# Altium schematic symbol library JTAG_20POS_100mil.SchLib: 1 symbol
Pins are listed as number, name and electrical type; pins without a type are passive.

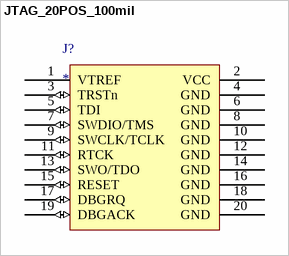
[diagram p0: symbol JTAG_20POS_100mil]

## JTAG_20POS_100mil
designator J?
2x10 100mil pitch JTAG
pins: 1 VTREF (power), 2 VCC (power), 3 TRSTn (io), 4 GND (power), 5 TDI (io), 6 GND (power), 7 SWDIO/TMS (io), 8 GND (power), 9 SWCLK/TCLK (io), 10 GND (power), 11 RTCK (io), 12 GND (power), 13 SWO/TDO (io), 14 GND (power), 15 RESET (io), 16 GND (power), 17 DBGRQ (io), 18 GND (power), 19 DBGACK (io), 20 GND (power)